# Altium footprint library 1201M2S3AQE2.PcbLib: 2 footprints
Each footprint in its own frame and in the unit in brackets; x right, y up, seen from the top. Pads: shape width x height; smd on the part's side, far side on the other; paste and mask are expansions set on the pad; w line width, h text height; cw(c..) or ccw(c..) is an arc to the next point about the centre after c.
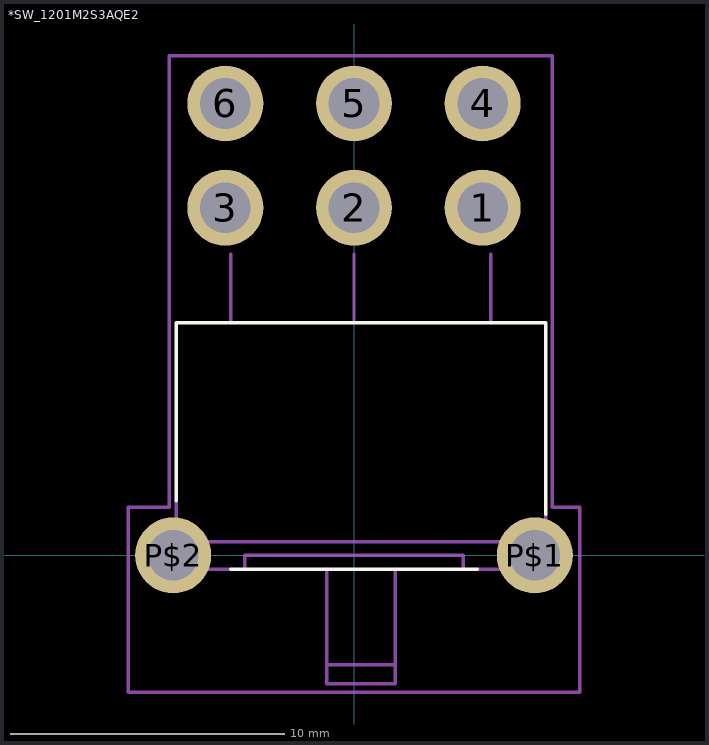
[diagram p0: the footprints below, top view; thin cyan lines are the x and y axes]

## *SW_1201M2S3AQE2 [mm]
pads (8):
  round 2.775 hole 1.85: 1(4.7,12.7) 2(0,12.7) 3(-4.7,12.7) 4(4.7,16.51) 5(0,16.51) 6(-4.7,16.51) P$1(6.605,0) P$2(-6.605,0)
Top Overlay:
  lines w0.127: -6.5,2 -6.5,8.5 7,8.5 7,1.5 ; -4.5,-0.5 4.5,-0.5
Mechanical 4:
  lines w0.127: -6.5,-0.5 -4.5,-0.5 -6.5,-0.5 ; -6.5,-0.5 -6.5,0.5 ; -6.5,-0.5 -6.5,0.5 ; -6.5,0.5 7,0.5 ; -6.5,0.5 -6.5,2 -6.5,0.5 ; -6.5,0.5 7,0.5 ; -4,0 4,0 ; -4,0 -4,-0.5 -4,0 ; -4,0 4,0 ; -1,-4.7 1.5,-4.7 ; -1,-4.7 -1,-4 ; -1,-4.7 1.5,-4.7 ; -1,-4.7 -1,-4 ; -1,-4 1.5,-4 ; -1,-4 -1,-0.5 -1,-4 ; -1,-4 1.5,-4 ; 1.5,-4.7 1.5,-4 ; 1.5,-4.7 1.5,-4 ; 1.5,-4 1.5,-0.5 1.5,-4 ; 4,0 4,-0.5 4,0 ; 7,-0.5 4.5,-0.5 7,-0.5 ; 7,-0.5 7,0.5 ; 7,-0.5 7,0.5 ; 7,0.5 7,1.5 7,0.5 ; -4.5,8.5 -4.5,11 -4.5,8.5 ; 0,8.5 0,11 0,8.5 ; 5,8.5 5,11 5,8.5
Mechanical 16:
  lines w0.127: -8.25,-5 -8.25,1.75 -6.75,1.75 -6.75,18.25 7.25,18.25 7.25,1.75 8.25,1.75 8.25,-5 -8.25,-5

## PCBComponent_1 [mm]